# Altium schematic symbol library 12BH311P-R-GR.SchLib: 1 symbol
Pins are listed as number, name and electrical type; pins without a type are passive.

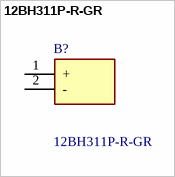
[diagram p0: symbol 12BH311P-R-GR]

## 12BH311P-R-GR
designator B?
Cylindrical Battery Contacts, Clips, Holders & Springs 1 "AA" PC LDS W/RIB; Manufacturer_Name: Eagle Plastic Devices; Geometry.Height: 14.4mm; Mouser Part Number: 12BH311P-R-GR; Mouser Price/Stock: https://www.mouser.co.uk/ProductDetail/Eagle-Plastic-Devices/12BH311P-R-GR?qs=xlWIvxljzP5Z0EAaeyyPGg%3D%3D; Manufacturer_Part_Number: 12BH311P-R-GR; Datasheet Link: *
footprint 12BH311PRGR
pins: 1 +, 2 -